# EAGLE library part 615008144221 (library Wurth_Connectors_WR-MJ)
WR-MJ Modular Jack Vertical Plastic 8P8C w. Ears Kind Properties Quality Class:500 Mating cycles General Information Operating Temperature:-40 up to +85 °C Compliance:RoHS Electrical Properties IR 1:1.5 A Working Voltage:120V (AC) Withstanding Voltage:1000V (AC) Contact Resistance:20mΩ RISO:500 MΩ Material Properties Insulator MateriaL:PBT Insulator Flammability Rating:UL94 V-0 Color:Black Contact Material Copper Alloy Contact Plating: Gold Contact Type:Stamped Packaging Properties Packaging:Tray <https://www.we-online.com/catalog/media/o33134v209%20Family_WR-MJ_615008144221.jpg> Details see: https://www.we-online.com/catalog/en/MJ_VERTICAL_PLASTIC_8P8C_W_EARS/ Updated by Ella Wu 2020-06-30 2020(C) Würth Elektronik
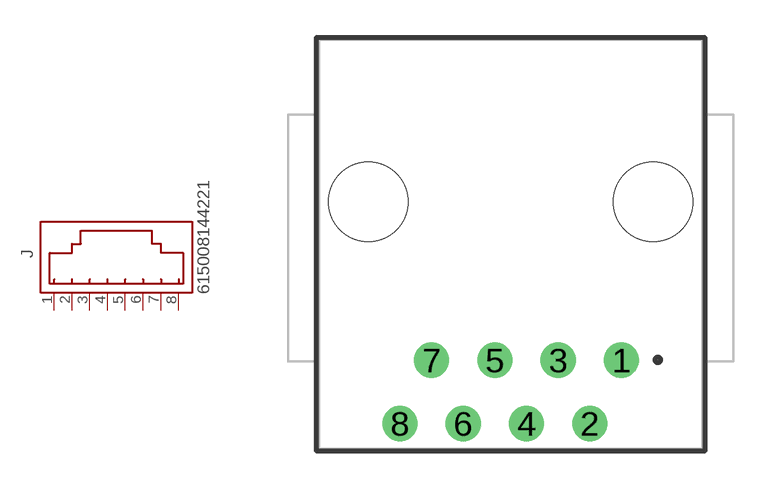
[diagram p16: symbol with the pads of 615008144221; footprint 615008144221]

Designator prefix J

## 615008144221 (DATASHEET-URL: https://www.we-online.com/redexpert/spec/615008144221?ae; MOUNT: THT; PART-NUMBER: 615008144221; TYPE: Vertical; VALUE: 615008144221; XPXC: 8P8C)  [615008144221]
1  8  pas
2  7  pas
3  6  pas
4  5  pas
5  4  pas
6  3  pas
7  2  pas
8  1  pas

## Footprint 615008144221 (pad centres in mm)
WR-MJ Modular Jack Vertical Plastic 8P8C w. Ears, 8 pins
drill 0.9: 1 4.445,-4.65; 2 3.175,-7.19; 3 1.905,-4.65; 4 0.635,-7.19; 5 -0.635,-4.65; 6 -1.905,-7.19; 7 -3.175,-4.65; 8 -4.445,-7.19
hole 3.17 at 5.715,1.7
hole 3.17 at -5.715,1.7